# EAGLE library part 691309310012 (library WR-TBL Pluggable Connector)
WR-TBL Serie 3093 - 3.81 mm Horizontal Reserved PCB Header with Flanges KIND PROPERTIES Pitch 3.81 mm MATERIAL PROPERTIES Insulator Material PA66 Insulator Flammability Rating UL94 V-0 Contact Material Copper Alloy Contact Plating Tin Contact Type Stamped GENERAL INFORMATION Operating Temperature -40 up to +115 °C Compliance RoHS ELECTRICAL PROPERTIES IR UL 8 A Working Voltage [UL] 300 V (AC) Withstanding Voltage [cULus] 1600 V (AC) Contact Resistance [cULus] 20 mΩ CERTIFICATION UL Approval E315414 <https://www.we-online.com/catalog/media/o86366v209%20Family_WR-TBL_6913093100xx_4C.jpg> Details see: https://www.we-online.com/catalog/en/TBL_3_81_3093_HORIZONTAL_RESERVED_PCB_HEADER_W_FLANGES_6913093100XX/ Updated by Ella Wu 2022-07-25 2022(C) Wurth Elektronik
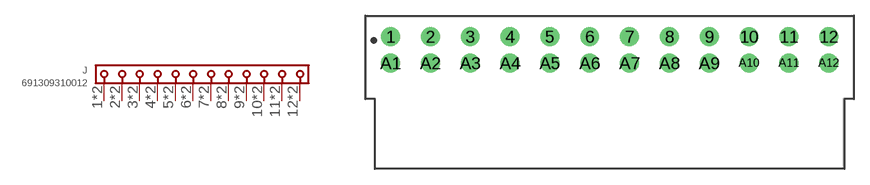
[diagram p150: symbol with the pads of 691309310012; footprint 691309310012]

Designator prefix J

## 691309310012 (DATASHEET-URL: https://www.we-online.com/redexpert/spec/691309310012?ae; IR-UL: 8A; MOUNT: THT; PART-NUMBER: 691309310012; PINS: 12; PITCH: 3.81mm; TYPE: Horizontal PCB Header; VALUE: 691309310012; WORKING-VOLTAGE-UL: 300V (AC))  [691309310012]
1  1  pas
2  2  pas
3  3  pas
4  4  pas
5  5  pas
6  6  pas
7  7  pas
8  8  pas
9  9  pas
10  10  pas
11  11  pas
12  12  pas
A1  1  pas
A2  2  pas
A3  3  pas
A4  4  pas
A5  5  pas
A6  6  pas
A7  7  pas
A8  8  pas
A9  9  pas
A10  10  pas
A11  11  pas
A12  12  pas

## Footprint 691309310012 (pad centres in mm)
WR-TBL Serie 3093 - 3.81 mm Horizontal Reserved PCB Header with Flanges Max Height = 6.6mm , Pitch 3.81mm , 12pins
drill 1.2: 1 -20.96,1.27; 2 -17.15,1.27; 3 -13.34,1.27; 4 -9.53,1.27; 5 -5.72,1.27; 6 -1.91,1.27; 7 1.9,1.27; 8 5.71,1.27; 9 9.52,1.27; 10 13.33,1.27; 11 17.14,1.27; 12 20.95,1.27; A1 -20.96,-1.27; A2 -17.15,-1.27; A3 -13.34,-1.27; A4 -9.53,-1.27; A5 -5.72,-1.27; A6 -1.91,-1.27; A7 1.9,-1.27; A8 5.71,-1.27; A9 9.52,-1.27; A10 13.33,-1.27; A11 17.14,-1.27; A12 20.95,-1.27